# Altium integrated library LCD-16X2.IntLib: 1 symbol
Pins are listed as number, name and electrical type; pins without a type are passive.

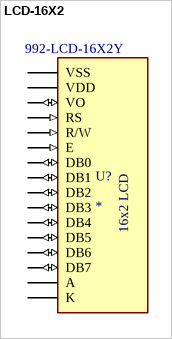
[diagram p0: symbol LCD-16X2]

## LCD-16X2
designator U?  Supplier Part Number 1: 992-LCD-16X2Y
Display Development Tools 16x2 Black on Green Char LCD w Backlight; Manufacturer Part Number: LCD-16X2Y; MF: Gravitech; MP: LCD-16X2; Operating Supply Voltage: 5V; Interface: Parallel; Package: None; Price: None; Value: *; SnapEDA_Link: https://www.snapeda.com/parts/LCD-16X2/Gravitech/view-part/?ref=snap; Availability: Not in stock; Check_prices: https://www.snapeda.com/parts/LCD-16X2/Gravitech/view-part/?ref=eda; Supplier 1: Mouser; Manufacturer: Gravitech; RoHS: Yes; ComponentLink1URL: http://www.gravitech.us/16chblongrlc.html?src-supplier=Mouser; ComponentLink1Description: http://www.gravitech.us/16chblongrlc.html?src-supplier=Mouser
footprint MODULE_LCD-16X2
pins: 1 VSS (power), 2 VDD (power), 3 VO (io), 4 RS (in), 5 R/W (in), 6 E (in), 7 DB0 (io), 8 DB1 (io), 9 DB2 (io), 10 DB3 (io), 11 DB4 (io), 12 DB5 (io), 13 DB6 (io), 14 DB7 (io), 15 A (power), 16 K (power)
text: 16x2 LCD